# Altium footprint library composants passifs.pcblib: 55 footprints (part 2 of 4)
Each footprint in its own frame and in the unit in brackets; x right, y up, seen from the top. Pads: shape width x height; smd on the part's side, far side on the other; paste and mask are expansions set on the pad; w line width, h text height; cw(c..) or ccw(c..) is an arc to the next point about the centre after c.
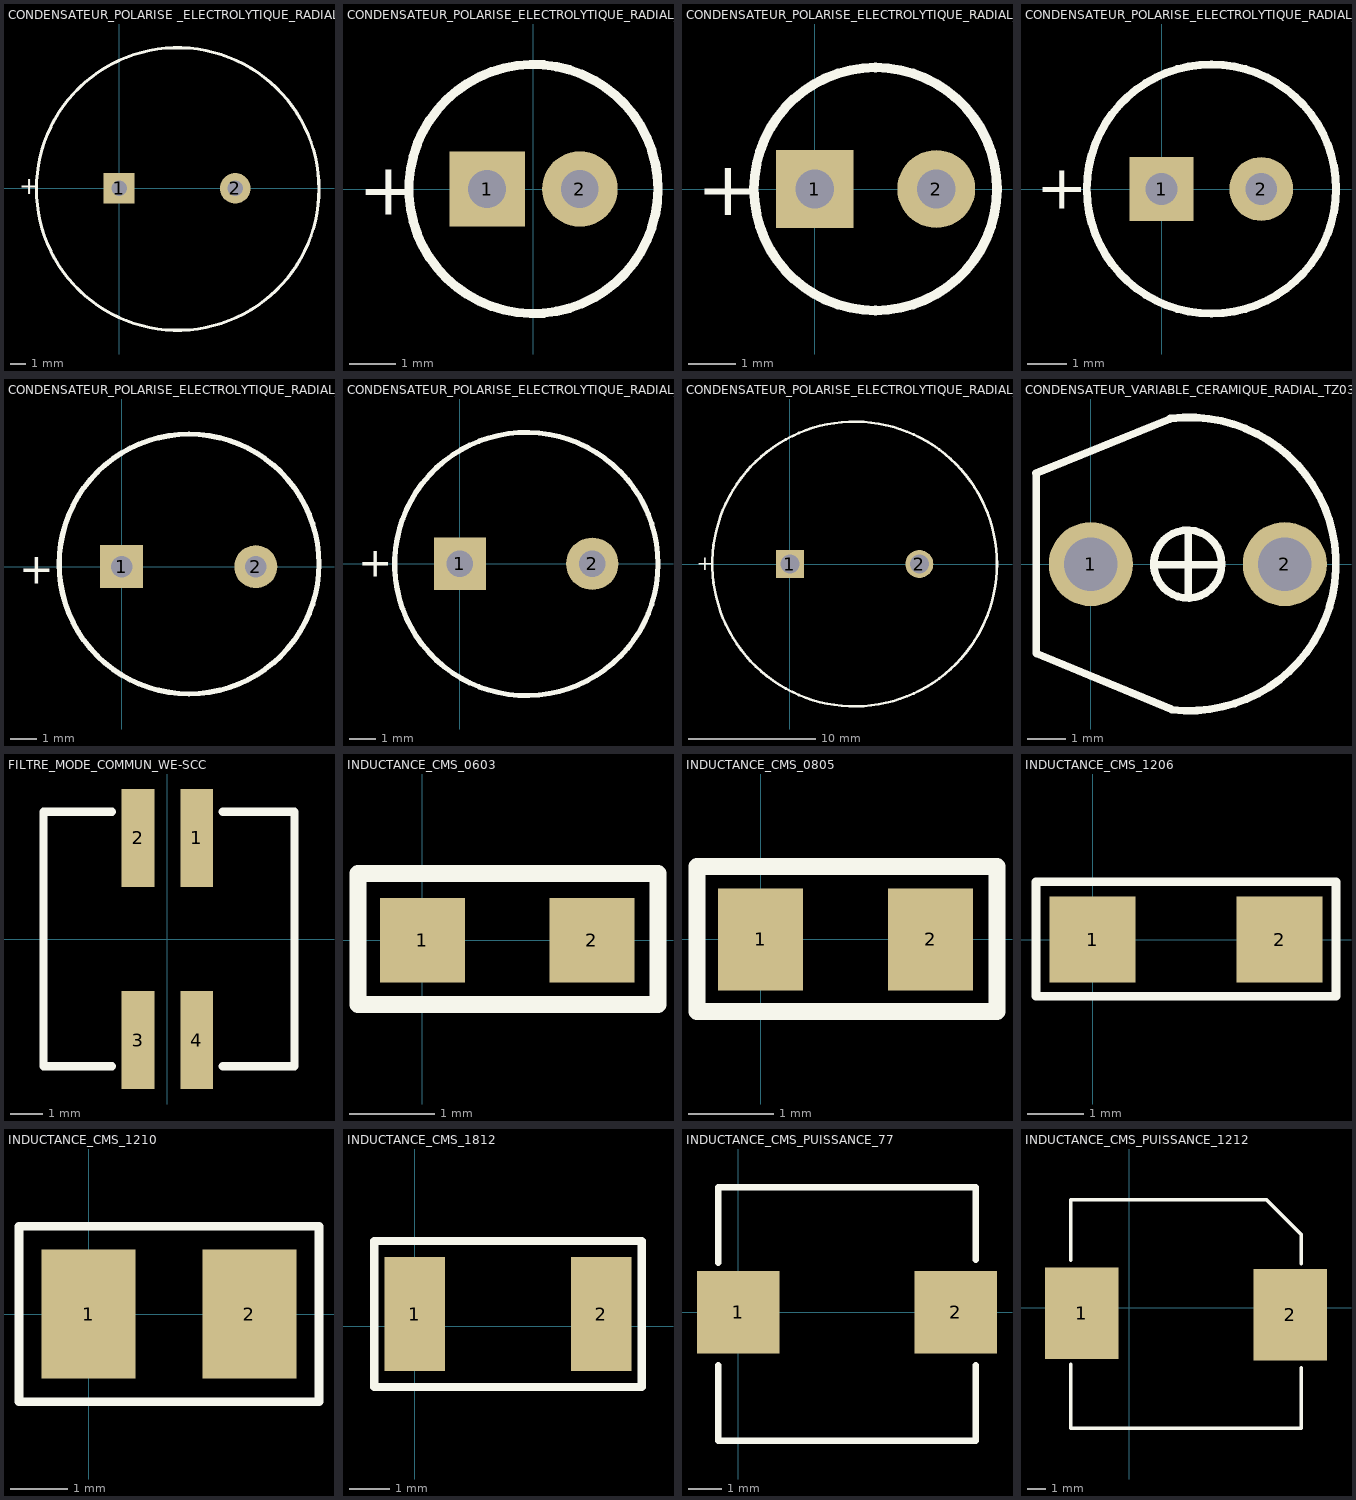
[diagram p1: the footprints below, top view; thin cyan lines are the x and y axes]

## CONDENSATEUR_POLARISE _ELECTROLYTIQUE_RADIAL_7.62/18 [mil] "CONDENSATEUR POLARISE ELECTROLYTIQUE RADIAL ; DIAMETRE : 17.78mm ; ESPACEMENT BROCHES : 7.62mm"
height 1240.16
pads (2):
  rect 79x79 / inner round 79 / far side round 79 hole 40: 1(0,0)
  round 79 hole 40: 2(300,0)
Top Overlay:
  circle w7.87: c151.34,-1.57 r364.81
  text "+" at -258.27,-15.75 h45
3D body "condensateur polarise radial 18x15x7.62.STEP": height 590.55, standoff -98.43, extent -200.79,-354.33 507.87,354.33

## CONDENSATEUR_POLARISE_ELECTROLYTIQUE_RADIAL_2.0/5.08 [mil] "CONDENSATEUR POLARISE ELECTROLYTIQUE RADIAL ; DIAMETRE : 5.08mm ; ESPACEMENT BROCHES : 2mm"
height 472.44
pads (2):
  rect 64x64 / inner round 64 / far side round 64 hole 32: 1(-39.37,0)
  round 64 hole 32: 2(39.37,0)
Top Overlay:
  circle w7.87: c0,0 r105.63
  text "+" at -148.82,-21.65 h45
3D body "condensateur polarise radial 5x11 pas=2mm.STEP": height 433.07, standoff -748.03, extent -98.42,-98.43 98.43,98.42

## CONDENSATEUR_POLARISE_ELECTROLYTIQUE_RADIAL_2.54/5.08 [mil] "CONDENSATEUR_POLARISE_ELECTROLYTIQUE_RADIAL ; DIAMETRE : 5.08mm ; ESPACEMENT BROCHES : 2.54mm"
height 472.44
pads (2):
  rect 64x64 / inner round 64 / far side round 64 hole 32: 1(0,0)
  round 64 hole 32: 2(100,0)
Top Overlay:
  lines w7.87: -50,0 ccw(c50,0) 50,-100 ccw(c50,0) 150,0 ccw(c50,0) 50,100 ccw(c50,0) -50,0
  text "+" at -96.85,-21.65 h45
3D body "condensateu polarise radial 5x11x2mm.STEP": height 445.88, standoff -136.68, extent -49.61,-100.61 149.24,98.24

## CONDENSATEUR_POLARISE_ELECTROLYTIQUE_RADIAL_2.54/6.3 [mil] "CONDENSATEUR POLARISE ELECTROLYTIQUE RADIAL ; DIAMETRE : 6.35mm ; ESPACEMENT BROCHES : 2.54mm"
height 472.44
pads (2):
  rect 64x64 / inner round 64 / far side round 64 hole 32: 1(0,0)
  round 64 hole 32: 2(100,0)
Top Overlay:
  lines w7.87: -75,0 cw(c50,0) 50,125 cw(c50,0) 175,0 cw(c50,0) 50,-125 cw(c50,0) -75,0
  text "+" at -125.98,-19.68 h45
3D body "condensateur polarise radial 6.3X11 pas=2.54mm.STEP": height 433.07, standoff -748.03, extent -72.83,-125.98 175.2,122.05

## CONDENSATEUR_POLARISE_ELECTROLYTIQUE_RADIAL_5.08/8.9 [mil] "CONDENSATEUR_POLARISE_ELECTROLYTIQUE_RADIAL ; DIAMETRE : 8.9mm ; ESPACEMENT BROCHES : 5.08mm"
pads (2):
  rect 64x64 / inner round 64 / far side round 64 hole 32: 1(0,0)
  round 64 hole 32: 2(200,0)
Top Overlay:
  circle w7.87: c100.62,3.94 r193.54
  text "+" at -152.76,-25.2 h45
3D body "condensateur polarise radial 10X12_5 pas=5mm.STEP": height 485.01, standoff -745.28, extent -92.91,-188.19 291.34,196.06

## CONDENSATEUR_POLARISE_ELECTROLYTIQUE_RADIAL_5.08/10.16 [mil] "CONDENSATEUR POLARISE ELECTROLYTIQUE RADIAL ; DIAMETRE : 10.16mm ; ESPACEMENT BROCHES : 5.08mm"
height 787.4
pads (2):
  rect 79x79 / inner round 79 / far side round 79 hole 40: 1(0,0)
  round 79 hole 40: 2(200,0)
Top Overlay:
  circle w7.87: c100.42,-0.39 r198.85
  text "+" at -153.94,-19.29 h45
3D body "condensateur polarise radial 10x16 pas=5mm.STEP": height 629.92, standoff -748.03, extent -98.42,-196.85 295.28,196.85

## CONDENSATEUR_POLARISE_ELECTROLYTIQUE_RADIAL_10/22 [mm] "CONDENSATEUR POLARISE ELECTROLYTIQUE RADIAL ; DIAMETRE : 22mm ; ESPACEMENT BROCHES : 10mm"
height 40
pads (2):
  rect 2.2x2.2 hole 1.5: 1(0,0)
  round 2.2 hole 1.5: 2(10.16,0)
Top Overlay:
  circle w0.2: c5.08,0 r11.18
  text "+" at -7.3,-0.5 h1.14
3D body "condensateur polarise radial 22x25 pas=10.16mm.STEP": height 25, standoff 0, extent -5.9,-11.1 16.1,10.9

## CONDENSATEUR_VARIABLE_CERAMIQUE_RADIAL_TZ03 [mm] "CONDENSATEUR VARIABLE CERAMIQUE RADIAL TZ03 ; SERIE TZ03 ; ESPACEMENT BROCHES : 5mm"
height 6
pads (2):
  round 2.2 hole 1.4: 1(0,0) 2(5.08,0)
Top Overlay:
  circle w0.2: c2.54,0 r0.889
  lines w0.2: -1.436,2.379 2.07,3.8 ; -1.43,-2.33 -1.43,2.37 ; -1.42,-2.34 2.11,-3.8 ; 1.67,-0.02 3.43,-0.02 ; 2.083,3.812 cw(c2.579,0.003) 2.115,-3.81 ; 2.55,-0.88 2.55,0.88
3D body "condensateur variable.STEP": height 4.8, standoff -3.3, extent -0.44,-2.99 5.56,3.01

## FILTRE_MODE_COMMUN_WE-SCC [mm]
height 5
pads (4):
  rect 1x3 smd: 1(0.9,3.1) 2(-0.9,3.1) 3(-0.9,-3.1) 4(0.9,-3.1)
Top Overlay:
  lines w0.254: -1.7,-3.9 -3.8,-3.9 -3.8,3.9 -1.7,3.9 ; 1.7,-3.9 3.9,-3.9 3.9,3.9 1.7,3.9
3D body "filtre de mode commun we-dd.STEP": height 4, standoff 0, extent -3.5,-3.7 3.8,3.6

## INDUCTANCE_CMS_0603 [mm] "INDUCTANCE CMS 0603 ; DIMENSIONS : 1.6mm x 0.8mm"
height 0.8
pads (2):
  rect 1x1 smd: 1(0,0) 2(2,0)
Top Overlay:
  lines w0.2: -0.76,-0.76 -0.76,0.79 2.78,0.79 2.78,-0.76 -0.76,-0.76
3D body "inductance cms 0603.STEP": height 0.95, standoff 0, extent -0.01,-0.6 1.99,0.6

## INDUCTANCE_CMS_0805 [mm] "INDUCTANCE CMS 0805 ; DIMENSIONS : 2mm x 1.25mm"
height 0.8
pads (2):
  rect 1x1.2 smd: 1(0,0) 2(2,0)
Top Overlay:
  lines w0.2: -0.75,-0.85 -0.75,0.86 2.78,0.86 2.78,-0.85 -0.75,-0.85
3D body "inductance cms 0805.STEP": height 0.95, standoff 0, extent 0,-0.6 2,0.6

## INDUCTANCE_CMS_1206 [mil] "INDUCTANCE CMS 1206 ; DIMENSIONS : 3.2mm x 1.6mm"
height 39.37
pads (2):
  rect 60x60 smd: 1(0,0) 2(130,0)
Top Overlay:
  lines w6: -39.37,-39.37 169.29,-39.37 169.29,40.16 -39.37,40.16 -39.37,-39.37
3D body "inductance cms 1206 (2).STEP": height 62.99, standoff 0, extent 2.36,-29.92 128.35,29.13

## INDUCTANCE_CMS_1210 [mil] "INDUCTANCE CMS 1210 ; DIMENSIONS : 3.2mm x 2.5mm"
height 78.74
pads (2):
  rect 64x88 smd: 1(0,0) 2(110,0)
Top Overlay:
  lines w6: -47.5,-60 157.5,-60 157.5,60 -47.5,60 -47.5,-60
3D body "inductance cms 1210.STEP": height 98.43, standoff 0, extent -7.87,-51.18 118.11,47.24

## INDUCTANCE_CMS_1812 [mm] "INDUCTANCE CMS 1812 ; DIMENSIONS : 4.5mm x 3.2mm"
height 3.2
pads (2):
  rect 1.5x2.8 smd: 1(0,0.3) 2(4.6,0.3)
Top Overlay:
  lines w0.2: -1,-1.5 -1,2.1 5.6,2.1 5.6,-1.5 -1,-1.5
3D body "inductance cms 1812.STEP": height 3.24, standoff -0.09, extent 0.05,-1.3 4.55,1.9

## INDUCTANCE_CMS_PUISSANCE_77 [mm] "INDUCTANCE CMS PUISSANCE 77 ; DIMENSIONS : 7.3mm x 7.3mm"
height 5
pads (2):
  rect 2.5x2.5 smd: 1(0,0) 2(6.6,0)
Top Overlay:
  lines w0.2: -0.6,-1.6 -0.6,-3.9 7.2,-3.9 7.2,-1.6 ; -0.6,1.5 -0.6,3.8 7.2,3.8 7.2,1.6
3D body "inductance cms 7x7x5.STEP": height 4.55, standoff 0, extent -0.4,-3.7 7.028,3.6

## INDUCTANCE_CMS_PUISSANCE_1212 [mm] "INDUCTANCE CMS PUISSANCE 1212 ; DIMENSIONS : 12.3mm x 12.3mm"
height 8
pads (2):
  rect 4x5 smd: 1(-2.6,-0.3) 2(8.8,-0.4)
Top Overlay:
  lines w0.2: -3.2,-3.1 -3.2,-6.6 9.4,-6.6 9.4,-3.3 ; -3.2,2.6 -3.2,5.9 7.5,5.9 9.4,4 9.4,2.4
3D body "inductance cms 12.3x12.3x8.STEP": height 8.16, standoff 0, extent -3.058,-6.5 9.258,5.8